# EAGLE library part PIC32MX795F512L- (library TRISThis)
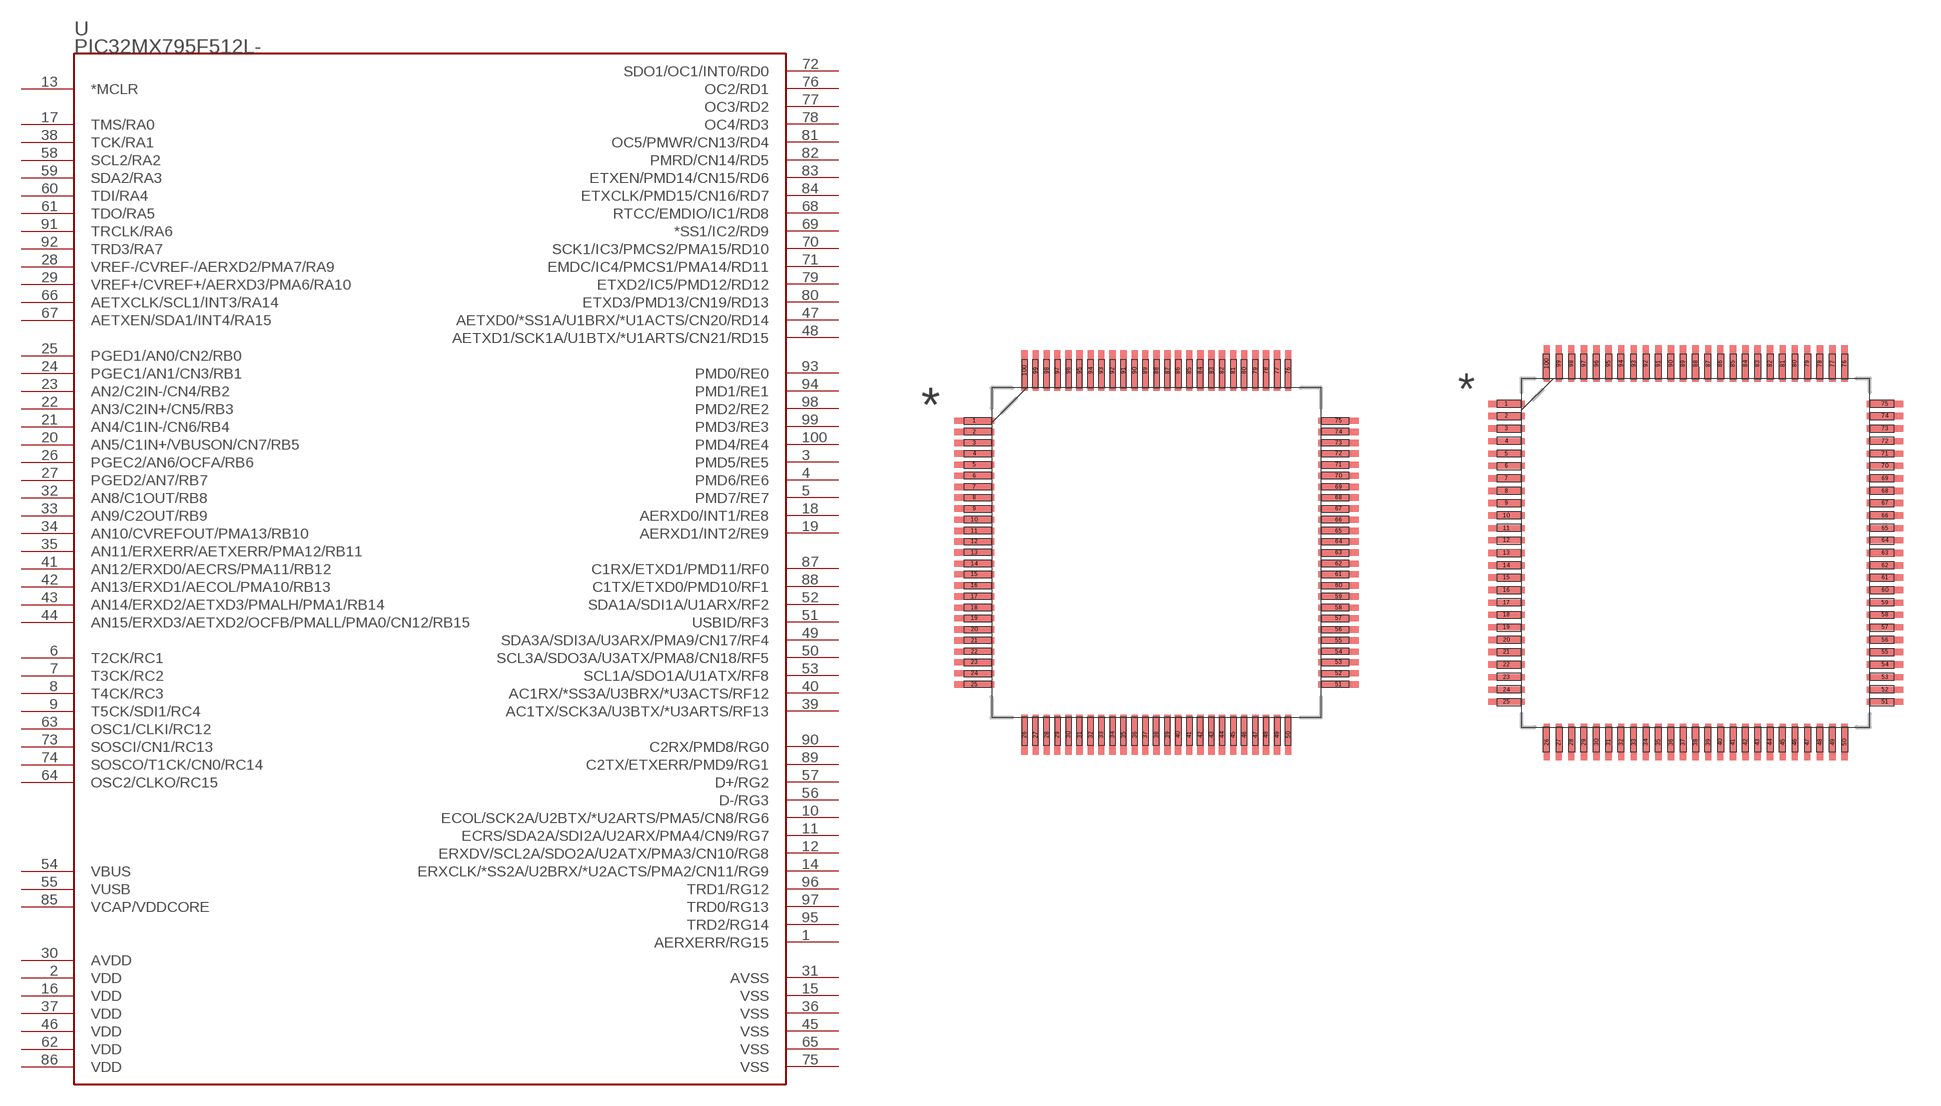
[diagram p4: symbol with the pads of TQFP100_12X12; footprints TQFP100_12X12, TQFP100_14X14]

Designator prefix U

## PIC32MX795F512L--PT  [TQFP100_12X12]
1  AERXERR/RG15  pas
2  VDD  pas
3  PMD5/RE5  pas
4  PMD6/RE6  pas
5  PMD7/RE7  pas
6  T2CK/RC1  pas
7  T3CK/RC2  pas
8  T4CK/RC3  pas
9  T5CK/SDI1/RC4  pas
10  ECOL/SCK2A/U2BTX/*U2ARTS/PMA5/CN8/RG6  pas
11  ECRS/SDA2A/SDI2A/U2ARX/PMA4/CN9/RG7  pas
12  ERXDV/SCL2A/SDO2A/U2ATX/PMA3/CN10/RG8  pas
13  *MCLR  pas
14  ERXCLK/*SS2A/U2BRX/*U2ACTS/PMA2/CN11/RG9  pas
15  VSS  pas
16  VDD  pas
17  TMS/RA0  pas
18  AERXD0/INT1/RE8  pas
19  AERXD1/INT2/RE9  pas
20  AN5/C1IN+/VBUSON/CN7/RB5  pas
21  AN4/C1IN-/CN6/RB4  pas
22  AN3/C2IN+/CN5/RB3  pas
23  AN2/C2IN-/CN4/RB2  pas
24  PGEC1/AN1/CN3/RB1  pas
25  PGED1/AN0/CN2/RB0  pas
26  PGEC2/AN6/OCFA/RB6  pas
27  PGED2/AN7/RB7  pas
28  VREF-/CVREF-/AERXD2/PMA7/RA9  pas
29  VREF+/CVREF+/AERXD3/PMA6/RA10  pas
30  AVDD  pas
31  AVSS  pas
32  AN8/C1OUT/RB8  pas
33  AN9/C2OUT/RB9  pas
34  AN10/CVREFOUT/PMA13/RB10  pas
35  AN11/ERXERR/AETXERR/PMA12/RB11  pas
36  VSS  pas
37  VDD  pas
38  TCK/RA1  pas
39  AC1TX/SCK3A/U3BTX/*U3ARTS/RF13  pas
40  AC1RX/*SS3A/U3BRX/*U3ACTS/RF12  pas
41  AN12/ERXD0/AECRS/PMA11/RB12  pas
42  AN13/ERXD1/AECOL/PMA10/RB13  pas
43  AN14/ERXD2/AETXD3/PMALH/PMA1/RB14  pas
44  AN15/ERXD3/AETXD2/OCFB/PMALL/PMA0/CN12/RB15  pas
45  VSS  pas
46  VDD  pas
47  AETXD0/*SS1A/U1BRX/*U1ACTS/CN20/RD14  pas
48  AETXD1/SCK1A/U1BTX/*U1ARTS/CN21/RD15  pas
49  SDA3A/SDI3A/U3ARX/PMA9/CN17/RF4  pas
50  SCL3A/SDO3A/U3ATX/PMA8/CN18/RF5  pas
51  USBID/RF3  pas
52  SDA1A/SDI1A/U1ARX/RF2  pas
53  SCL1A/SDO1A/U1ATX/RF8  pas
54  VBUS  pas
55  VUSB  pas
56  D-/RG3  pas
57  D+/RG2  pas
58  SCL2/RA2  pas
59  SDA2/RA3  pas
60  TDI/RA4  pas
61  TDO/RA5  pas
62  VDD  pas
63  OSC1/CLKI/RC12  pas
64  OSC2/CLKO/RC15  pas
65  VSS  pas
66  AETXCLK/SCL1/INT3/RA14  pas
67  AETXEN/SDA1/INT4/RA15  pas
68  RTCC/EMDIO/IC1/RD8  pas
69  *SS1/IC2/RD9  pas
70  SCK1/IC3/PMCS2/PMA15/RD10  pas
71  EMDC/IC4/PMCS1/PMA14/RD11  pas
72  SDO1/OC1/INT0/RD0  pas
73  SOSCI/CN1/RC13  pas
74  SOSCO/T1CK/CN0/RC14  pas
75  VSS  pas
76  OC2/RD1  pas
77  OC3/RD2  pas
78  OC4/RD3  pas
79  ETXD2/IC5/PMD12/RD12  pas
80  ETXD3/PMD13/CN19/RD13  pas
81  OC5/PMWR/CN13/RD4  pas
82  PMRD/CN14/RD5  pas
83  ETXEN/PMD14/CN15/RD6  pas
84  ETXCLK/PMD15/CN16/RD7  pas
85  VCAP/VDDCORE  pas
86  VDD  pas
87  C1RX/ETXD1/PMD11/RF0  pas
88  C1TX/ETXD0/PMD10/RF1  pas
89  C2TX/ETXERR/PMD9/RG1  pas
90  C2RX/PMD8/RG0  pas
91  TRCLK/RA6  pas
92  TRD3/RA7  pas
93  PMD0/RE0  pas
94  PMD1/RE1  pas
95  TRD2/RG14  pas
96  TRD1/RG12  pas
97  TRD0/RG13  pas
98  PMD2/RE2  pas
99  PMD3/RE3  pas
100  PMD4/RE4  pas

## PIC32MX795F512L--PF  [TQFP100_14X14]
Pads as for TQFP100_12X12

## Footprint TQFP100_12X12 (pad centres in mm)
smd 1.473 x 0.229: 1 -6.629,4.801; 2 -6.629,4.394; 3 -6.629,3.988; 4 -6.629,3.607; 5 -6.629,3.2; 6 -6.629,2.794; 7 -6.629,2.388; 8 -6.629,2.007; 9 -6.629,1.6; 10 -6.629,1.194; 11 -6.629,0.787; 12 -6.629,0.406; 13 -6.629,0; 14 -6.629,-0.406; 15 -6.629,-0.787; 16 -6.629,-1.194; 17 -6.629,-1.6; 18 -6.629,-2.007; 19 -6.629,-2.388; 20 -6.629,-2.794; 21 -6.629,-3.2; 22 -6.629,-3.607; 23 -6.629,-3.988; 24 -6.629,-4.394; 25 -6.629,-4.801; 51 6.629,-4.801; 52 6.629,-4.394; 53 6.629,-3.988; 54 6.629,-3.607; 55 6.629,-3.2; 56 6.629,-2.794; 57 6.629,-2.388; 58 6.629,-2.007; 59 6.629,-1.6; 60 6.629,-1.194; 61 6.629,-0.787; 62 6.629,-0.406; 63 6.629,0; 64 6.629,0.406; 65 6.629,0.787; 66 6.629,1.194; 67 6.629,1.6; 68 6.629,2.007; 69 6.629,2.388; 70 6.629,2.794; 71 6.629,3.2; 72 6.629,3.607; 73 6.629,3.988; 74 6.629,4.394; 75 6.629,4.801
smd 0.229 x 1.473: 26 -4.801,-6.629; 27 -4.394,-6.629; 28 -3.988,-6.629; 29 -3.607,-6.629; 30 -3.2,-6.629; 31 -2.794,-6.629; 32 -2.388,-6.629; 33 -2.007,-6.629; 34 -1.6,-6.629; 35 -1.194,-6.629; 36 -0.787,-6.629; 37 -0.406,-6.629; 38 0,-6.629; 39 0.406,-6.629; 40 0.787,-6.629; 41 1.194,-6.629; 42 1.6,-6.629; 43 2.007,-6.629; 44 2.388,-6.629; 45 2.794,-6.629; 46 3.2,-6.629; 47 3.607,-6.629; 48 3.988,-6.629; 49 4.394,-6.629; 50 4.801,-6.629; 76 4.801,6.629; 77 4.394,6.629; 78 3.988,6.629; 79 3.607,6.629; 80 3.2,6.629; 81 2.794,6.629; 82 2.388,6.629; 83 2.007,6.629; 84 1.6,6.629; 85 1.194,6.629; 86 0.787,6.629; 87 0.406,6.629; 88 0,6.629; 89 -0.406,6.629; 90 -0.787,6.629; 91 -1.194,6.629; 92 -1.6,6.629; 93 -2.007,6.629; 94 -2.388,6.629; 95 -2.794,6.629; 96 -3.2,6.629; 97 -3.607,6.629; 98 -3.988,6.629; 99 -4.394,6.629; 100 -4.801,6.629

## Footprint TQFP100_14X14 (pad centres in mm)
smd 1.473 x 0.254: 1 -7.62,5.994; 2 -7.62,5.512; 3 -7.62,5.004; 4 -7.62,4.496; 5 -7.62,3.988; 6 -7.62,3.505; 7 -7.62,2.997; 8 -7.62,2.489; 9 -7.62,2.007; 10 -7.62,1.499; 11 -7.62,0.991; 12 -7.62,0.508; 13 -7.62,0; 14 -7.62,-0.508; 15 -7.62,-0.991; 16 -7.62,-1.499; 17 -7.62,-2.007; 18 -7.62,-2.489; 19 -7.62,-2.997; 20 -7.62,-3.505; 21 -7.62,-3.988; 22 -7.62,-4.496; 23 -7.62,-5.004; 24 -7.62,-5.512; 25 -7.62,-5.994; 51 7.62,-5.994; 52 7.62,-5.512; 53 7.62,-5.004; 54 7.62,-4.496; 55 7.62,-3.988; 56 7.62,-3.505; 57 7.62,-2.997; 58 7.62,-2.489; 59 7.62,-2.007; 60 7.62,-1.499; 61 7.62,-0.991; 62 7.62,-0.508; 63 7.62,0; 64 7.62,0.508; 65 7.62,0.991; 66 7.62,1.499; 67 7.62,2.007; 68 7.62,2.489; 69 7.62,2.997; 70 7.62,3.505; 71 7.62,3.988; 72 7.62,4.496; 73 7.62,5.004; 74 7.62,5.512; 75 7.62,5.994
smd 0.254 x 1.473: 26 -5.994,-7.62; 27 -5.512,-7.62; 28 -5.004,-7.62; 29 -4.496,-7.62; 30 -3.988,-7.62; 31 -3.505,-7.62; 32 -2.997,-7.62; 33 -2.489,-7.62; 34 -2.007,-7.62; 35 -1.499,-7.62; 36 -0.991,-7.62; 37 -0.508,-7.62; 38 0,-7.62; 39 0.508,-7.62; 40 0.991,-7.62; 41 1.499,-7.62; 42 2.007,-7.62; 43 2.489,-7.62; 44 2.997,-7.62; 45 3.505,-7.62; 46 3.988,-7.62; 47 4.496,-7.62; 48 5.004,-7.62; 49 5.512,-7.62; 50 5.994,-7.62; 76 5.994,7.62; 77 5.512,7.62; 78 5.004,7.62; 79 4.496,7.62; 80 3.988,7.62; 81 3.505,7.62; 82 2.997,7.62; 83 2.489,7.62; 84 2.007,7.62; 85 1.499,7.62; 86 0.991,7.62; 87 0.508,7.62; 88 0,7.62; 89 -0.508,7.62; 90 -0.991,7.62; 91 -1.499,7.62; 92 -2.007,7.62; 93 -2.489,7.62; 94 -2.997,7.62; 95 -3.505,7.62; 96 -3.988,7.62; 97 -4.496,7.62; 98 -5.004,7.62; 99 -5.512,7.62; 100 -5.994,7.62